# EAGLE library part MSP430F169 (library gumsense)
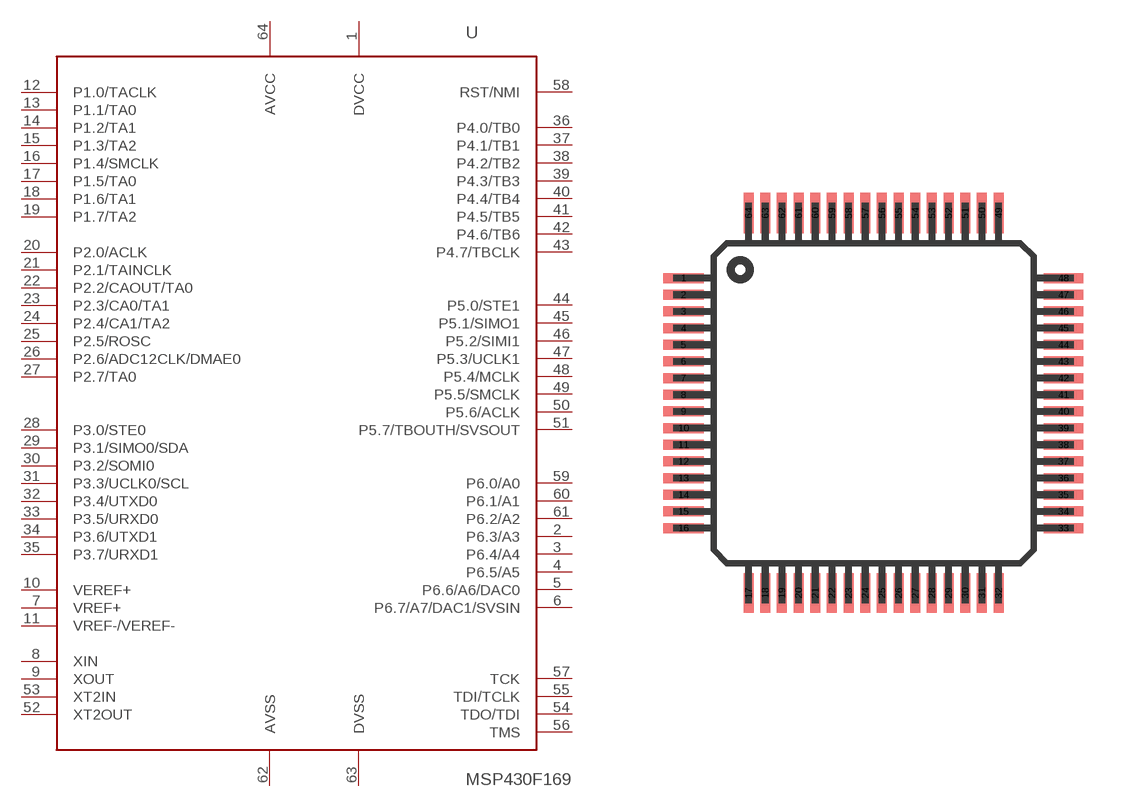
[diagram p0: symbol with the pads of LQFP-64; footprint LQFP-64]

Designator prefix -

## MSP430F169  [LQFP-64]
1  DVCC
2  P6.3/A3
3  P6.4/A4
4  P6.5/A5
5  P6.6/A6/DAC0
6  P6.7/A7/DAC1/SVSIN
7  VREF+
8  XIN
9  XOUT
10  VEREF+
11  VREF-/VEREF-
12  P1.0/TACLK
13  P1.1/TA0
14  P1.2/TA1
15  P1.3/TA2
16  P1.4/SMCLK
17  P1.5/TA0
18  P1.6/TA1
19  P1.7/TA2
20  P2.0/ACLK
21  P2.1/TAINCLK
22  P2.2/CAOUT/TA0
23  P2.3/CA0/TA1
24  P2.4/CA1/TA2
25  P2.5/ROSC
26  P2.6/ADC12CLK/DMAE0
27  P2.7/TA0
28  P3.0/STE0
29  P3.1/SIMO0/SDA
30  P3.2/SOMI0
31  P3.3/UCLK0/SCL
32  P3.4/UTXD0
33  P3.5/URXD0
34  P3.6/UTXD1
35  P3.7/URXD1
36  P4.0/TB0
37  P4.1/TB1
38  P4.2/TB2
39  P4.3/TB3
40  P4.4/TB4
41  P4.5/TB5
42  P4.6/TB6
43  P4.7/TBCLK
44  P5.0/STE1
45  P5.1/SIMO1
46  P5.2/SIMI1
47  P5.3/UCLK1
48  P5.4/MCLK
49  P5.5/SMCLK
50  P5.6/ACLK
51  P5.7/TBOUTH/SVSOUT
52  XT2OUT
53  XT2IN
54  TDO/TDI
55  TDI/TCLK
56  TMS
57  TCK
58  RST/NMI
59  P6.0/A0
60  P6.1/A1
61  P6.2/A2
62  AVSS
63  DVSS
64  AVCC

## Footprint LQFP-64 (pad centres in mm)
smd 1.2 x 0.3: 1 -0.62,-1.33; 2 -0.62,-1.83; 3 -0.62,-2.33; 4 -0.62,-2.83; 5 -0.62,-3.33; 6 -0.62,-3.83; 7 -0.62,-4.33; 8 -0.62,-4.83; 9 -0.62,-5.33; 10 -0.62,-5.83; 11 -0.62,-6.33; 12 -0.62,-6.83; 13 -0.62,-7.33; 14 -0.62,-7.83; 15 -0.62,-8.33; 16 -0.62,-8.83; 33 10.78,-8.83; 34 10.78,-8.33; 35 10.78,-7.83; 36 10.78,-7.33; 37 10.78,-6.83; 38 10.78,-6.33; 39 10.78,-5.83; 40 10.78,-5.33; 41 10.78,-4.83; 42 10.78,-4.33; 43 10.78,-3.83; 44 10.78,-3.33; 45 10.78,-2.83; 46 10.78,-2.33; 47 10.78,-1.83; 48 10.78,-1.33
smd 0.3 x 1.2: 17 1.33,-10.78; 18 1.83,-10.78; 19 2.33,-10.78; 20 2.83,-10.78; 21 3.33,-10.78; 22 3.83,-10.78; 23 4.33,-10.78; 24 4.83,-10.78; 25 5.33,-10.78; 26 5.83,-10.78; 27 6.33,-10.78; 28 6.83,-10.78; 29 7.33,-10.78; 30 7.83,-10.78; 31 8.33,-10.78; 32 8.83,-10.78; 49 8.83,0.62; 50 8.33,0.62; 51 7.83,0.62; 52 7.33,0.62; 53 6.83,0.62; 54 6.33,0.62; 55 5.83,0.62; 56 5.33,0.62; 57 4.83,0.62; 58 4.33,0.62; 59 3.83,0.62; 60 3.33,0.62; 61 2.83,0.62; 62 2.33,0.62; 63 1.83,0.62; 64 1.33,0.62